# EAGLE library part CPC5001G (library RS-parts)
Dual Non-Inverting Optoisolator
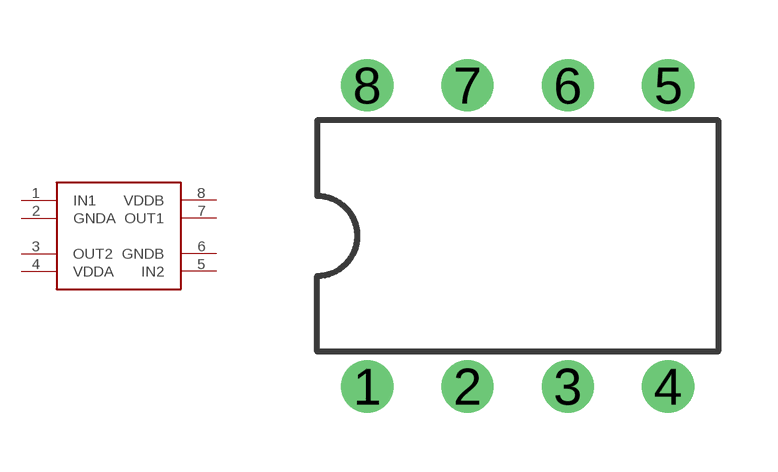
[diagram p4: symbol with the pads of DIL08; footprint DIL08]

Designator prefix -

## CPC5001G (DPN: CLA406-ND; MFN: CPC5001G)  [DIL08]
1  IN1
2  GNDA
3  OUT2
4  VDDA
5  IN2
6  GNDB
7  OUT1
8  VDDB

## Footprint DIL08 (pad centres in mm)
Dual In Line Package
drill 0.813 pad 1.27: 1 -3.81,-3.81; 2 -1.27,-3.81; 3 1.27,-3.81; 4 3.81,-3.81; 5 3.81,3.81; 6 1.27,3.81; 7 -1.27,3.81; 8 -3.81,3.81